# Altium footprint library promini.PcbLib: 1 footprints
Each footprint in its own frame and in the unit in brackets; x right, y up, seen from the top. Pads: shape width x height; smd on the part's side, far side on the other; paste and mask are expansions set on the pad; w line width, h text height; cw(c..) or ccw(c..) is an arc to the next point about the centre after c.
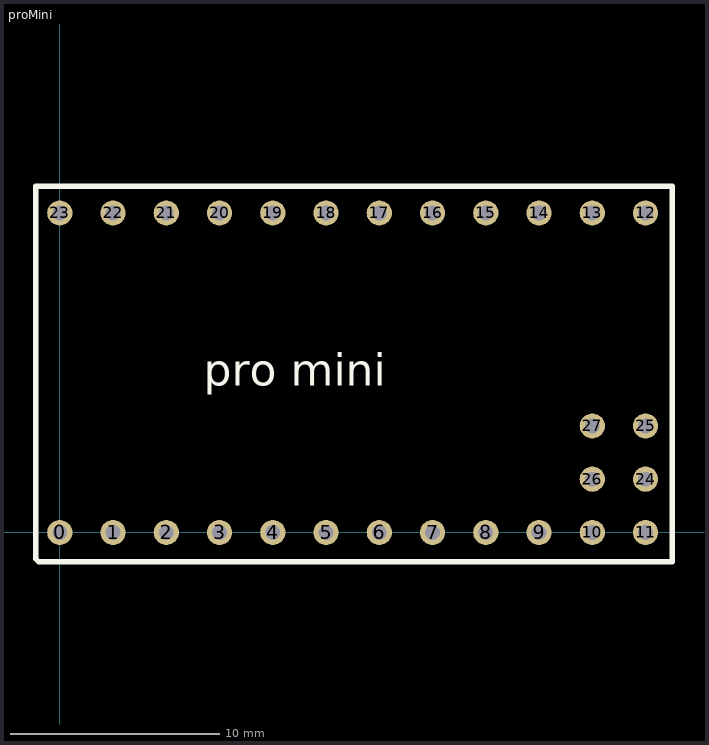
[diagram p0: the footprint, top view; thin cyan lines are the x and y axes]

## proMini [mm]
pads (28):
  round 1.2 hole 0.7: 0(0,0) 1(2.54,0) 2(5.08,0) 3(7.62,0) 4(10.16,0) 5(12.7,0) 6(15.24,0) 7(17.78,0) 8(20.32,0) 9(22.86,0) 10(25.4,0) 11(27.94,0) 12(27.94,15.24) 13(25.4,15.24) 14(22.86,15.24) 15(20.32,15.24) 16(17.78,15.24) 17(15.24,15.24) 18(12.7,15.24) 19(10.16,15.24) 20(7.62,15.24) 21(5.08,15.24) 22(2.54,15.24) 23(0,15.24) 24(27.94,2.54) 25(27.94,5.08) 26(25.4,2.54) 27(25.4,5.08)
Top Overlay:
  lines w0.254: -1.143,-1.27 -1.016,-1.397 29.21,-1.397 29.21,16.51 -1.143,16.51 -1.143,-1.27
  text "pro mini" at 6.858,6.985 h1.52